# Altium schematic symbol library Connector-USB.SchLib: 7 symbols
Pins are listed as number, name and electrical type; pins without a type are passive.

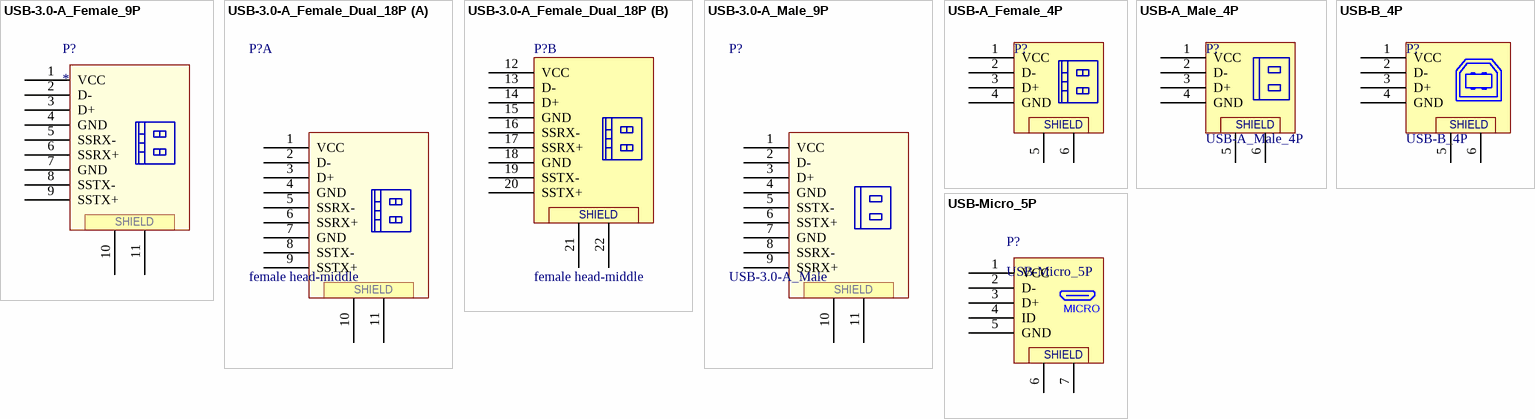
[diagram p0: symbols USB-3.0-A_Female_9P to USB-Micro_5P]

## USB-3.0-A_Female_9P
designator P?
footprint USB3.0-A_FEMALE_90_KPIN
footprint USB3.0-A_FEMALE_180_KPIN
footprint USB3.0-A_FEMALE_90_SIDE
footprint USB3.0-A_FEM_180_11.5H_NEC
pins: 1 VCC, 2 D-, 3 D+, 4 GND, 5 SSRX-, 6 SSRX+, 7 GND, 8 SSTX-, 9 SSTX+, 10 SHIELD, 11 SHIELD

## USB-3.0-A_Female_Dual_18P
designator P?, comment female head-middle
footprint USB3.0-A_FEMALE_DUAL_90_KPIN
part A pins: 1 VCC, 2 D-, 3 D+, 4 GND, 5 SSRX-, 6 SSRX+, 7 GND, 8 SSTX-, 9 SSTX+, 10 SHIELD, 11 SHIELD
part B pins: 12 VCC, 13 D-, 14 D+, 15 GND, 16 SSRX-, 17 SSRX+, 18 GND, 19 SSTX-, 20 SSTX+, 21 SGIELD, 22 SHIELD

## USB-3.0-A_Male_9P
designator P?, comment USB-3.0-A_Male
footprint USB3.0-A_MALE_90_SMT
pins: 1 VCC, 2 D-, 3 D+, 4 GND, 5 SSTX-, 6 SSTX+, 7 GND, 8 SSRX-, 9 SSRX+, 10 SHIELD, 11 SHIELD

## USB-A_Female_4P
designator P?
USB Port
footprint USB-A_FEMALE_90_KPIN
pins: 1 VCC, 2 D- , 3 D+, 4 GND, 5 SHIELD, 6 SHIELD

## USB-A_Male_4P
designator P?
USB Port
footprint USB-A_MALE_90
pins: 1 VCC, 2 D- , 3 D+, 4 GND, 5 SHIELD, 6 SHIELD

## USB-B_4P
designator P?
footprint USB-B_FEMALE_90_KPIN
pins: 1 VCC, 2 D-, 3 D+, 4 GND, 5 SHIELD, 6 SHIELD

## USB-Micro_5P
designator P?
MicroUSB接口
footprint USB-MICRO_5P_FEMALE_SMT (MICRO USB接口，2个SMT焊盘固定，后侧无固定柱)
footprint USB-MICRO_5P_FEMALE (MICRO USB接口，2个直插焊盘固定，后侧牛角形2个固定柱)
pins: 1 VCC, 2 D- , 3 D+, 4 ID, 5 GND, 6 SHIELD, 7 SHIELD
text: MICRO